# EAGLE library part ITG-3200 (library CNTRL_BOARD)
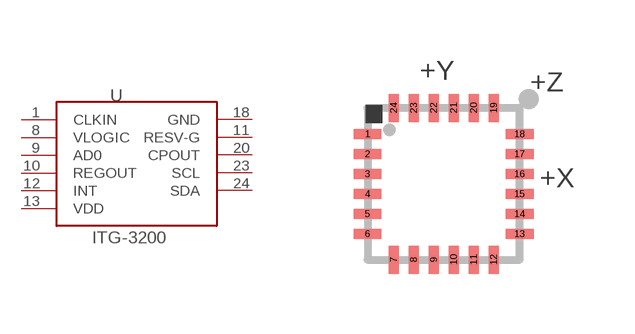
[diagram p10: symbol with the pads of QFN-24; footprint QFN-24]

Designator prefix -

## ITG-3200  [QFN-24]
1  CLKIN
8  VLOGIC
9  AD0
10  REGOUT
11  RESV-G
12  INT
13  VDD
18  GND
20  CPOUT
23  SCL
24  SDA

## Footprint QFN-24 (pad centres in mm)
smd 0.7 x 0.25: 1 -1.8,1.15; 2 -1.8,0.65; 3 -1.8,0.15; 4 -1.8,-0.35; 5 -1.8,-0.85; 6 -1.8,-1.35; 13 2,-1.35; 14 2,-0.85; 15 2,-0.35; 16 2,0.15; 17 2,0.65; 18 2,1.15
smd 0.25 x 0.7: 7 -1.15,-2; 8 -0.65,-2; 9 -0.15,-2; 10 0.35,-2; 11 0.85,-2; 12 1.35,-2; 19 1.35,1.8; 20 0.85,1.8; 21 0.35,1.8; 22 -0.15,1.8; 23 -0.65,1.8; 24 -1.15,1.8